# EAGLE library part XC3S-TQ144 (library Xilinx)
Xilinx XC3S50, XC3S200, or XC3S400 in a TQ144 package
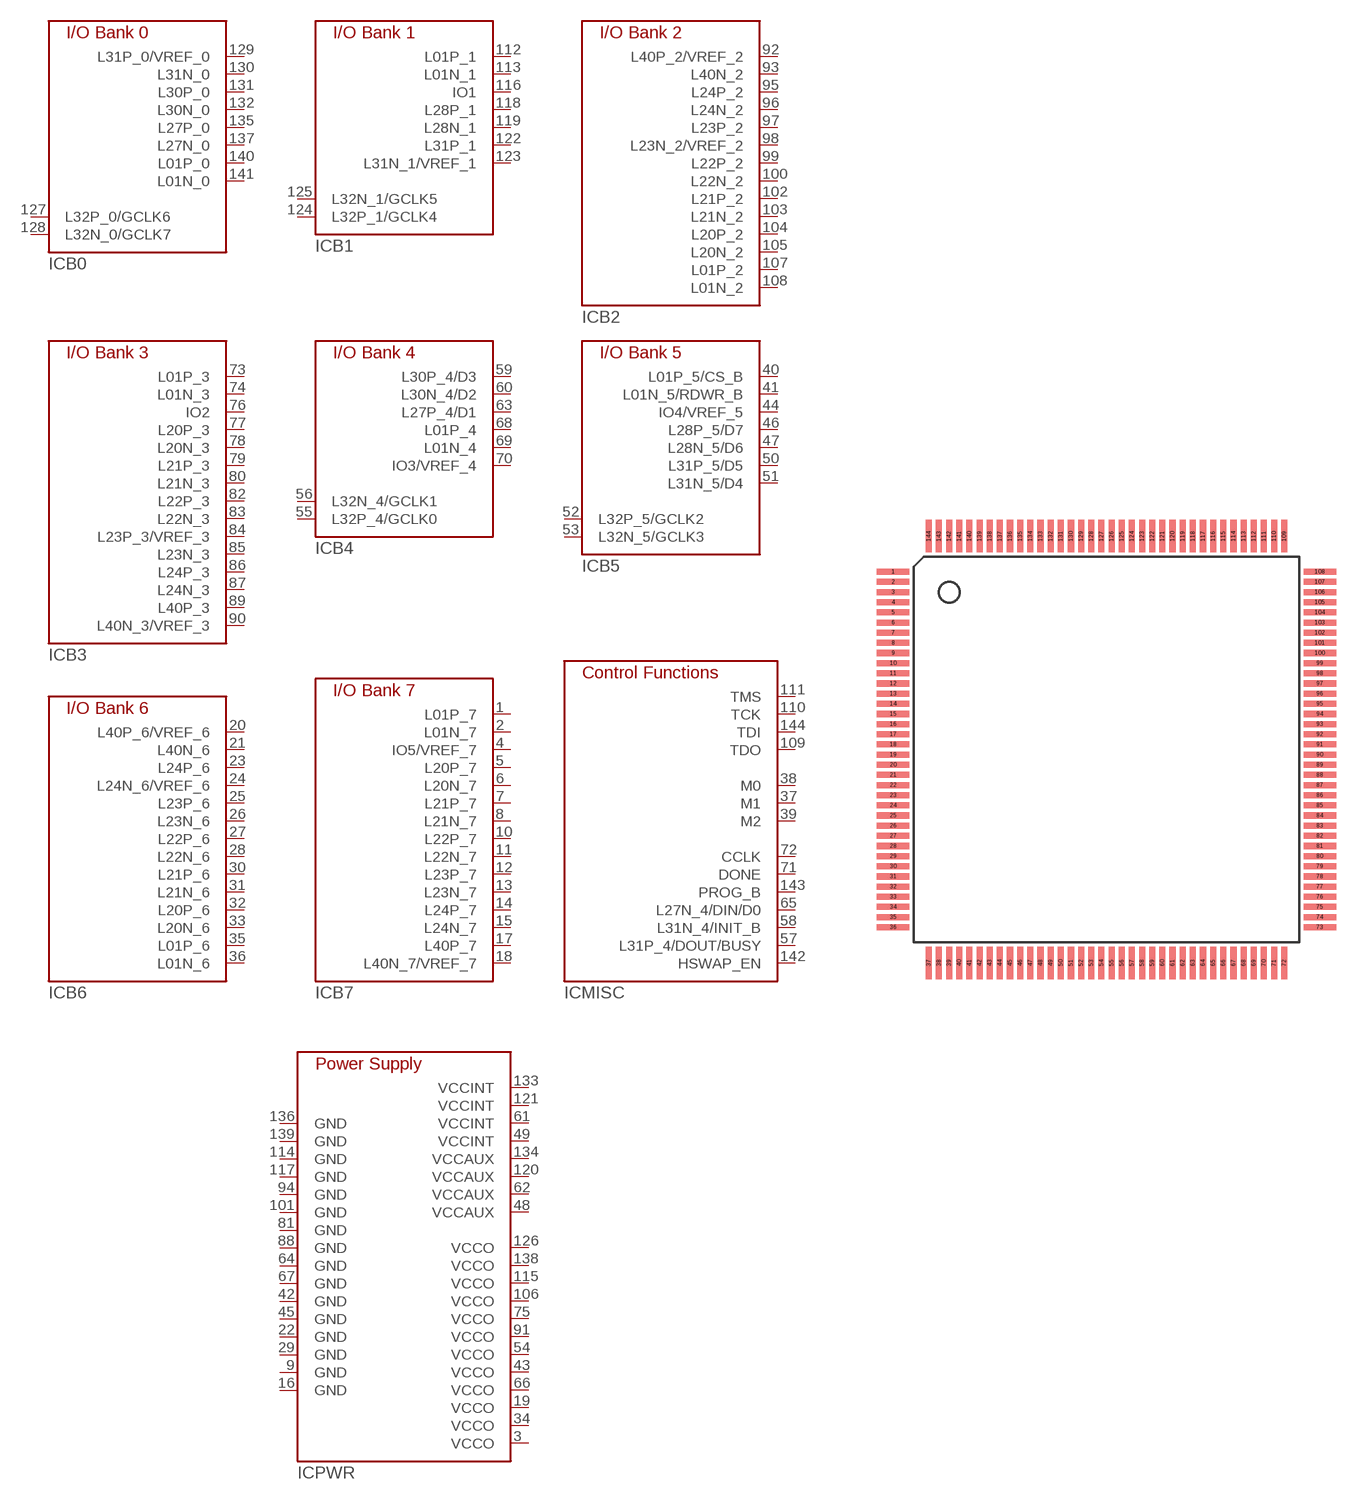
[diagram p34: symbol with the pads of TQ144; footprint TQ144]

Designator prefix IC; gates B0=XC3S/TQ144-B0 B1=XC3S/TQ144-B1 B2=XC3S/TQ144-B2 B3=XC3S/TQ144-B3 B6=XC3S/TQ144-B6 B7=XC3S/TQ144-B7 MISC=XC3S/TQ144-MISC PWR=XC3S/TQ144-PWR B4=XC3S/TQ144-B4 B5=XC3S/TQ144-B5

## XC3S-TQ144  [TQ144]
1  B7:L01P_7
2  B7:L01N_7
3  PWR:VCCO  pwr
4  B7:IO5/VREF_7
5  B7:L20P_7
6  B7:L20N_7
7  B7:L21P_7
8  B7:L21N_7
9  PWR:GND  pwr
10  B7:L22P_7
11  B7:L22N_7
12  B7:L23P_7
13  B7:L23N_7
14  B7:L24P_7
15  B7:L24N_7
16  PWR:GND  pwr
17  B7:L40P_7
18  B7:L40N_7/VREF_7
19  PWR:VCCO  pwr
20  B6:L40P_6/VREF_6
21  B6:L40N_6
22  PWR:GND  pwr
23  B6:L24P_6
24  B6:L24N_6/VREF_6
25  B6:L23P_6
26  B6:L23N_6
27  B6:L22P_6
28  B6:L22N_6
29  PWR:GND  pwr
30  B6:L21P_6
31  B6:L21N_6
32  B6:L20P_6
33  B6:L20N_6
34  PWR:VCCO  pwr
35  B6:L01P_6
36  B6:L01N_6
37  MISC:M1
38  MISC:M0
39  MISC:M2
40  B5:L01P_5/CS_B
41  B5:L01N_5/RDWR_B
42  PWR:GND  pwr
43  PWR:VCCO  pwr
44  B5:IO4/VREF_5
45  PWR:GND  pwr
46  B5:L28P_5/D7
47  B5:L28N_5/D6
48  PWR:VCCAUX  pwr
49  PWR:VCCINT  pwr
50  B5:L31P_5/D5
51  B5:L31N_5/D4
52  B5:L32P_5/GCLK2
53  B5:L32N_5/GCLK3
54  PWR:VCCO  pwr
55  B4:L32P_4/GCLK0
56  B4:L32N_4/GCLK1
57  MISC:L31P_4/DOUT/BUSY
58  MISC:L31N_4/INIT_B
59  B4:L30P_4/D3
60  B4:L30N_4/D2
61  PWR:VCCINT  pwr
62  PWR:VCCAUX  pwr
63  B4:L27P_4/D1
64  PWR:GND  pwr
65  MISC:L27N_4/DIN/D0
66  PWR:VCCO  pwr
67  PWR:GND  pwr
68  B4:L01P_4
69  B4:L01N_4
70  B4:IO3/VREF_4
71  MISC:DONE
72  MISC:CCLK
73  B3:L01P_3
74  B3:L01N_3
75  PWR:VCCO  pwr
76  B3:IO2
77  B3:L20P_3
78  B3:L20N_3
79  B3:L21P_3
80  B3:L21N_3
81  PWR:GND  pwr
82  B3:L22P_3
83  B3:L22N_3
84  B3:L23P_3/VREF_3
85  B3:L23N_3
86  B3:L24P_3
87  B3:L24N_3
88  PWR:GND  pwr
89  B3:L40P_3
90  B3:L40N_3/VREF_3
91  PWR:VCCO  pwr
92  B2:L40P_2/VREF_2
93  B2:L40N_2
94  PWR:GND  pwr
95  B2:L24P_2
96  B2:L24N_2
97  B2:L23P_2
98  B2:L23N_2/VREF_2
99  B2:L22P_2
100  B2:L22N_2
101  PWR:GND  pwr
102  B2:L21P_2
103  B2:L21N_2
104  B2:L20P_2
105  B2:L20N_2
106  PWR:VCCO  pwr
107  B2:L01P_2
108  B2:L01N_2
109  MISC:TDO
110  MISC:TCK
111  MISC:TMS
112  B1:L01P_1
113  B1:L01N_1
114  PWR:GND  pwr
115  PWR:VCCO  pwr
116  B1:IO1
117  PWR:GND  pwr
118  B1:L28P_1
119  B1:L28N_1
120  PWR:VCCAUX  pwr
121  PWR:VCCINT  pwr
122  B1:L31P_1
123  B1:L31N_1/VREF_1
124  B1:L32P_1/GCLK4
125  B1:L32N_1/GCLK5
126  PWR:VCCO  pwr
127  B0:L32P_0/GCLK6
128  B0:L32N_0/GCLK7
129  B0:L31P_0/VREF_0
130  B0:L31N_0
131  B0:L30P_0
132  B0:L30N_0
133  PWR:VCCINT  pwr
134  PWR:VCCAUX  pwr
135  B0:L27P_0
136  PWR:GND  pwr
137  B0:L27N_0
138  PWR:VCCO  pwr
139  PWR:GND  pwr
140  B0:L01P_0
141  B0:L01N_0
142  MISC:HSWAP_EN
143  MISC:PROG_B
144  MISC:TDI

## Footprint TQ144 (pad centres in mm)
smd 1.6 x 0.3: 1 -10.5,8.75; 2 -10.5,8.25; 3 -10.5,7.75; 4 -10.5,7.25; 5 -10.5,6.75; 6 -10.5,6.25; 7 -10.5,5.75; 8 -10.5,5.25; 9 -10.5,4.75; 10 -10.5,4.25; 11 -10.5,3.75; 12 -10.5,3.25; 13 -10.5,2.75; 14 -10.5,2.25; 15 -10.5,1.75; 16 -10.5,1.25; 17 -10.5,0.75; 18 -10.5,0.25; 19 -10.5,-0.25; 20 -10.5,-0.75; 21 -10.5,-1.25; 22 -10.5,-1.75; 23 -10.5,-2.25; 24 -10.5,-2.75; 25 -10.5,-3.25; 26 -10.5,-3.75; 27 -10.5,-4.25; 28 -10.5,-4.75; 29 -10.5,-5.25; 30 -10.5,-5.75; 31 -10.5,-6.25; 32 -10.5,-6.75; 33 -10.5,-7.25; 34 -10.5,-7.75; 35 -10.5,-8.25; 36 -10.5,-8.75; 73 10.5,-8.75; 74 10.5,-8.25; 75 10.5,-7.75; 76 10.5,-7.25; 77 10.5,-6.75; 78 10.5,-6.25; 79 10.5,-5.75; 80 10.5,-5.25; 81 10.5,-4.75; 82 10.5,-4.25; 83 10.5,-3.75; 84 10.5,-3.25; 85 10.5,-2.75; 86 10.5,-2.25; 87 10.5,-1.75; 88 10.5,-1.25; 89 10.5,-0.75; 90 10.5,-0.25; 91 10.5,0.25; 92 10.5,0.75; 93 10.5,1.25; 94 10.5,1.75; 95 10.5,2.25; 96 10.5,2.75; 97 10.5,3.25; 98 10.5,3.75; 99 10.5,4.25; 100 10.5,4.75; 101 10.5,5.25; 102 10.5,5.75; 103 10.5,6.25; 104 10.5,6.75; 105 10.5,7.25; 106 10.5,7.75; 107 10.5,8.25; 108 10.5,8.75
smd 0.3 x 1.6: 37 -8.75,-10.5; 38 -8.25,-10.5; 39 -7.75,-10.5; 40 -7.25,-10.5; 41 -6.75,-10.5; 42 -6.25,-10.5; 43 -5.75,-10.5; 44 -5.25,-10.5; 45 -4.75,-10.5; 46 -4.25,-10.5; 47 -3.75,-10.5; 48 -3.25,-10.5; 49 -2.75,-10.5; 50 -2.25,-10.5; 51 -1.75,-10.5; 52 -1.25,-10.5; 53 -0.75,-10.5; 54 -0.25,-10.5; 55 0.25,-10.5; 56 0.75,-10.5; 57 1.25,-10.5; 58 1.75,-10.5; 59 2.25,-10.5; 60 2.75,-10.5; 61 3.25,-10.5; 62 3.75,-10.5; 63 4.25,-10.5; 64 4.75,-10.5; 65 5.25,-10.5; 66 5.75,-10.5; 67 6.25,-10.5; 68 6.75,-10.5; 69 7.25,-10.5; 70 7.75,-10.5; 71 8.25,-10.5; 72 8.75,-10.5; 109 8.75,10.5; 110 8.25,10.5; 111 7.75,10.5; 112 7.25,10.5; 113 6.75,10.5; 114 6.25,10.5; 115 5.75,10.5; 116 5.25,10.5; 117 4.75,10.5; 118 4.25,10.5; 119 3.75,10.5; 120 3.25,10.5; 121 2.75,10.5; 122 2.25,10.5; 123 1.75,10.5; 124 1.25,10.5; 125 0.75,10.5; 126 0.25,10.5; 127 -0.25,10.5; 128 -0.75,10.5; 129 -1.25,10.5; 130 -1.75,10.5; 131 -2.25,10.5; 132 -2.75,10.5; 133 -3.25,10.5; 134 -3.75,10.5; 135 -4.25,10.5; 136 -4.75,10.5; 137 -5.25,10.5; 138 -5.75,10.5; 139 -6.25,10.5; 140 -6.75,10.5; 141 -7.25,10.5; 142 -7.75,10.5; 143 -8.25,10.5; 144 -8.75,10.5